# EAGLE library part ACAM_TDC-GPX(OCTALTIMER) (library QuantumOptics)
TDC-GPX, Acam, octal timer, 80pS resolution.only shows pins for I-mode single-ended, all other pins NC. http://www.acam.de/products/time-to-digital-converters/tdc-gpx/
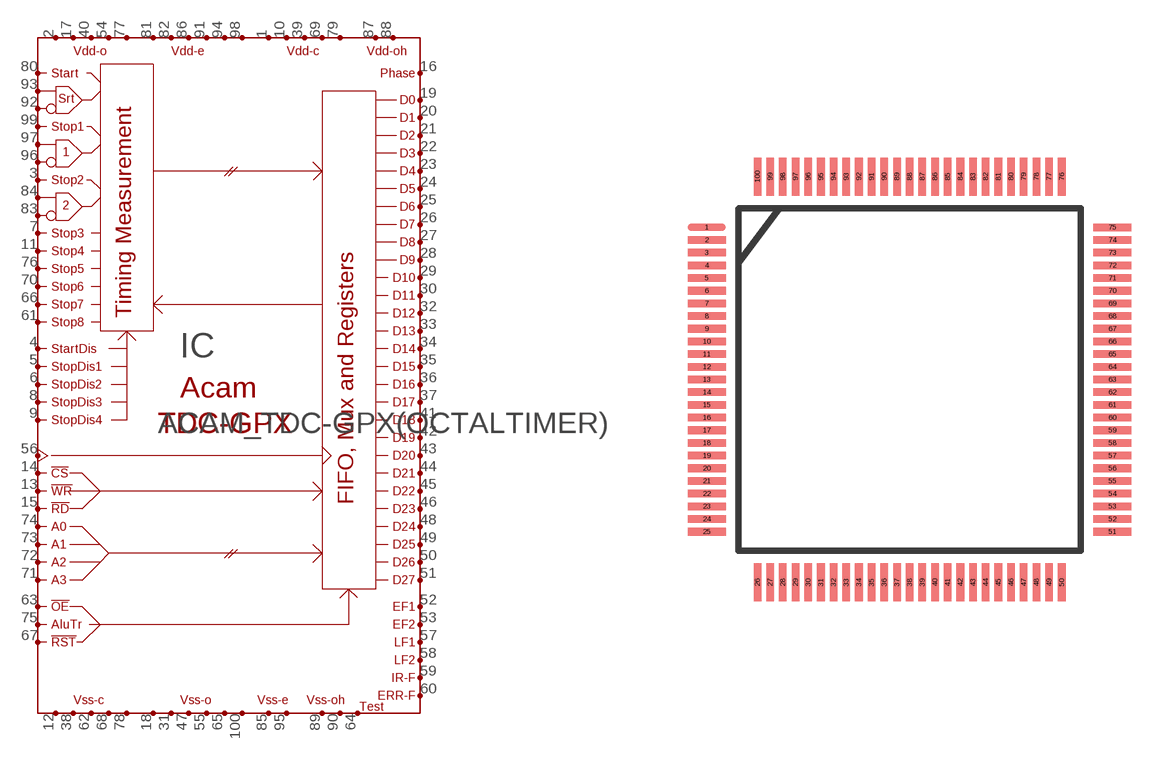
[diagram p137: symbol with the pads of TQFP100; footprint TQFP100]

Designator prefix IC

## ACAM_TDC-GPX(OCTALTIMER)  [TQFP100]
1  VDDC1
2  VDDO1
3  STOP2  in
4  STARTDIS  in
5  STOPDIS1  in
6  STOPDIS2  in
7  STOP3  in
8  STOPDIS3  in
9  STOPDIS4  in
10  VDDC2
11  STOP4  in
12  VSSC1
13  !WR  in
14  !CS  in
15  !RD  in
16  PHASE
17  VDDO2
18  VSSO1
19  D0  out
20  D1  out
21  D2  out
22  D3  out
23  D4  out
24  D5  out
25  D6  out
26  D7  out
27  D8  out
28  D9  out
29  D10  out
30  D11  out
31  VSSO2
32  D12  out
33  D13  out
34  D14  out
35  D15  out
36  D16  out
37  D17  out
38  VSSC2
39  VDDC3
40  VDDO3
41  D18  out
42  D19  out
43  D20  out
44  D21  out
45  D22  out
46  D23  out
47  VSSO3
48  D24  out
49  D25  out
50  D26  out
51  D27  out
52  EF1  out
53  EF2  out
54  VDDO4
55  VSSO4
56  CLK  in
57  LF1  out
58  LF2  out
59  IRFLAG  out
60  ERRFLAG  out
61  STOP8  in
62  VSSC3
63  !OE  in
64  TEST  in
65  VSSO5
66  STOP7  in
67  !RST  in
68  VSSC4
69  VDDC4
70  STOP6  in
71  ADD3  in
72  ADD2  in
73  ADD1  in
74  ADD0  in
75  ALUTR  in
76  STOP5  in
77  VDDO5
78  VSSC5
79  VDDC5
80  START  in
81  VDDE1
82  VDDE2
83  DSTOP2N  in
84  DSTOP2P  in
85  VSSE1
86  VDDE3
87  VDDC-H
88  VDDC-O
89  VSSC-O
90  VSSC-H
91  VDDE4
92  DSTARTN  in
93  DSTARTP  in
94  VDDE5
95  VSSE2
96  DSTOP1N  in
97  DSTOP1P  in
98  VDDE6
99  STOP1  in
100  VSSO6

## Footprint TQFP100 (pad centres in mm)
TQFP-100, from Altera.
smd 1.5 x 0.3: 1 -8.25,5.75; 2 -8.25,5.25; 3 -8.25,4.75; 4 -8.25,4.25; 5 -8.25,3.75; 6 -8.25,3.25; 7 -8.25,2.75; 8 -8.25,2.25; 9 -8.25,1.75; 10 -8.25,1.25; 11 -8.25,0.75; 12 -8.25,0.25; 13 -8.25,-0.25; 14 -8.25,-0.75; 15 -8.25,-1.25; 16 -8.25,-1.75; 17 -8.25,-2.25; 18 -8.25,-2.75; 19 -8.25,-3.25; 20 -8.25,-3.75; 21 -8.25,-4.25; 22 -8.25,-4.75; 23 -8.25,-5.25; 24 -8.25,-5.75; 25 -8.25,-6.25; 51 7.75,-6.25; 52 7.75,-5.75; 53 7.75,-5.25; 54 7.75,-4.75; 55 7.75,-4.25; 56 7.75,-3.75; 57 7.75,-3.25; 58 7.75,-2.75; 59 7.75,-2.25; 60 7.75,-1.75; 61 7.75,-1.25; 62 7.75,-0.75; 63 7.75,-0.25; 64 7.75,0.25; 65 7.75,0.75; 66 7.75,1.25; 67 7.75,1.75; 68 7.75,2.25; 69 7.75,2.75; 70 7.75,3.25; 71 7.75,3.75; 72 7.75,4.25; 73 7.75,4.75; 74 7.75,5.25; 75 7.75,5.75
smd 0.3 x 1.5: 26 -6.25,-8.25; 27 -5.75,-8.25; 28 -5.25,-8.25; 29 -4.75,-8.25; 30 -4.25,-8.25; 31 -3.75,-8.25; 32 -3.25,-8.25; 33 -2.75,-8.25; 34 -2.25,-8.25; 35 -1.75,-8.25; 36 -1.25,-8.25; 37 -0.75,-8.25; 38 -0.25,-8.25; 39 0.25,-8.25; 40 0.75,-8.25; 41 1.25,-8.25; 42 1.75,-8.25; 43 2.25,-8.25; 44 2.75,-8.25; 45 3.25,-8.25; 46 3.75,-8.25; 47 4.25,-8.25; 48 4.75,-8.25; 49 5.25,-8.25; 50 5.75,-8.25; 76 5.75,7.75; 77 5.25,7.75; 78 4.75,7.75; 79 4.25,7.75; 80 3.75,7.75; 81 3.25,7.75; 82 2.75,7.75; 83 2.25,7.75; 84 1.75,7.75; 85 1.25,7.75; 86 0.75,7.75; 87 0.25,7.75; 88 -0.25,7.75; 89 -0.75,7.75; 90 -1.25,7.75; 91 -1.75,7.75; 92 -2.25,7.75; 93 -2.75,7.75; 94 -3.25,7.75; 95 -3.75,7.75; 96 -4.25,7.75; 97 -4.75,7.75; 98 -5.25,7.75; 99 -5.75,7.75; 100 -6.25,7.75